# Altium footprint library Connector_PinHeader_2.54mm.PcbLib: 278 footprints (part 4 of 18)
Each footprint in its own frame and in the unit in brackets; x right, y up, seen from the top. Pads: shape width x height; smd on the part's side, far side on the other; paste and mask are expansions set on the pad; w line width, h text height; cw(c..) or ccw(c..) is an arc to the next point about the centre after c.
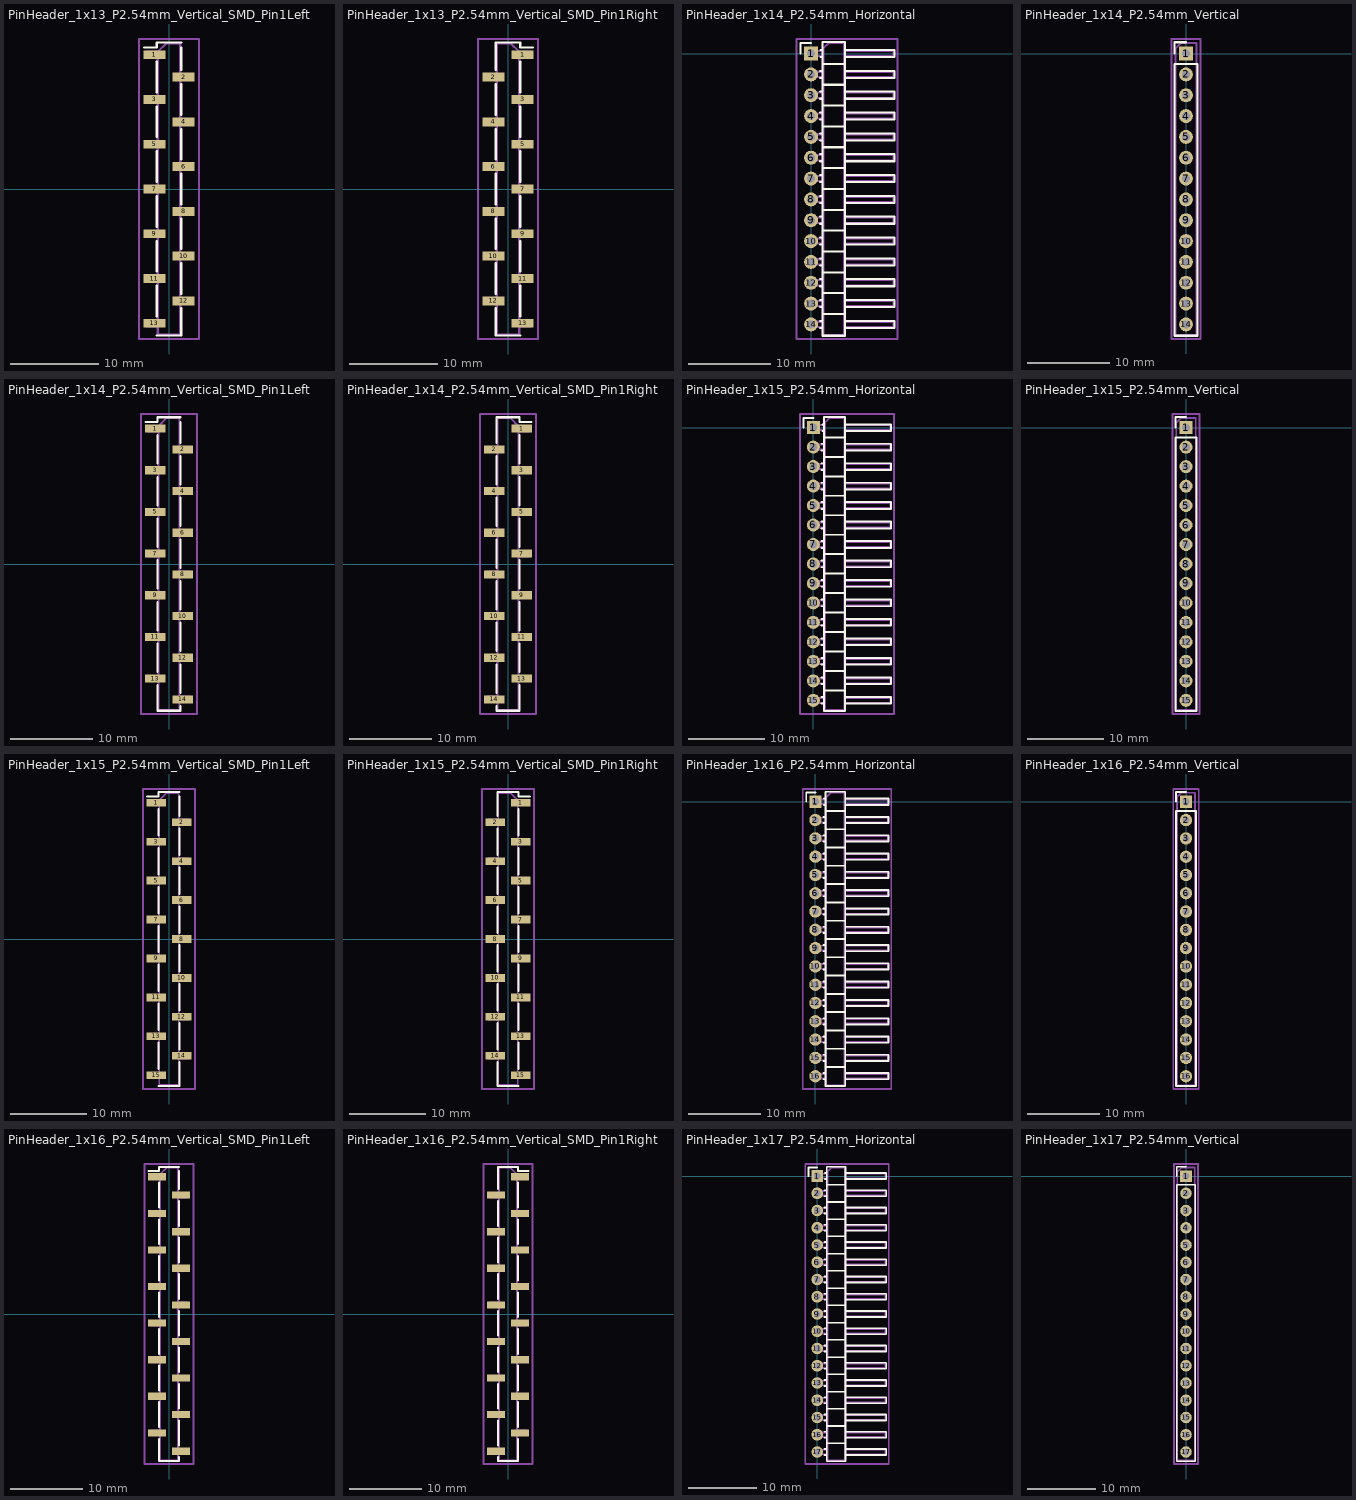
[diagram p3: the footprints below, top view; thin cyan lines are the x and y axes]

## PinHeader_1x13_P2.54mm_Vertical_SMD_Pin1Left [mm]
pads (13):
  rect 2.51x1 smd: 1(-1.655,15.24) 2(1.655,12.7) 3(-1.655,10.16) 4(1.655,7.62) 5(-1.655,5.08) 6(1.655,2.54) 7(-1.655,0) 8(1.655,-2.54) 9(-1.655,-5.08) 10(1.655,-7.62) 11(-1.655,-10.16) 12(1.655,-12.7) 13(-1.655,-15.24)
F.SilkS:
  lines w0.254: -2.85,16.05 -1.38,16.05 -1.38,16.62 1.38,16.62 ; -1.38,-16.62 1.38,-16.62 ; -1.38,-14.43 -1.38,-10.97 ; -1.38,-9.35 -1.38,-5.89 ; -1.38,-4.27 -1.38,-0.81 ; -1.38,0.81 -1.38,4.27 ; -1.38,5.89 -1.38,9.35 ; -1.38,10.97 -1.38,14.43 ; 1.38,-16.05 1.38,-16.62 ; 1.38,-13.51 1.38,-16.62 ; 1.38,-11.89 1.38,-8.43 ; 1.38,-6.81 1.38,-3.35 ; 1.38,-1.73 1.38,1.73 ; 1.38,3.35 1.38,6.81 ; 1.38,8.43 1.38,11.89 ; 1.38,13.51 1.38,16.05
Top Assembly:
  lines w0.254: -1.27,-15.56 -2.54,-15.56 -2.54,-14.92 -1.27,-14.92 ; -1.27,-10.48 -2.54,-10.48 -2.54,-9.84 -1.27,-9.84 ; -1.27,-5.4 -2.54,-5.4 -2.54,-4.76 -1.27,-4.76 ; -1.27,-0.32 -2.54,-0.32 -2.54,0.32 -1.27,0.32 ; -1.27,4.76 -2.54,4.76 -2.54,5.4 -1.27,5.4 ; -1.27,9.84 -2.54,9.84 -2.54,10.48 -1.27,10.48 ; -1.27,14.92 -2.54,14.92 -2.54,15.56 -1.27,15.56 ; 1.27,-13.02 2.54,-13.02 2.54,-12.38 1.27,-12.38 ; 1.27,-7.94 2.54,-7.94 2.54,-7.3 1.27,-7.3 ; 1.27,-2.86 2.54,-2.86 2.54,-2.22 1.27,-2.22 ; 1.27,2.22 2.54,2.22 2.54,2.86 1.27,2.86 ; 1.27,7.3 2.54,7.3 2.54,7.94 1.27,7.94 ; 1.27,12.38 2.54,12.38 2.54,13.02 1.27,13.02 ; -1.27,15.56 -1.27,-16.51 1.27,-16.51 1.27,16.51 -0.32,16.51 -1.27,15.56
  text "'.Designator'" at 0.84,-4.047 h1
Top Courtyard:
  lines w0.254: -3.41,-17.02 3.41,-17.02 3.41,17.02 -3.41,17.02 -3.41,-17.02
Top Designator:
  text ".Designator" at -7.618,-0.508 h1.52

## PinHeader_1x13_P2.54mm_Vertical_SMD_Pin1Right [mm]
pads (13):
  rect 2.51x1 smd: 1(1.655,15.24) 2(-1.655,12.7) 3(1.655,10.16) 4(-1.655,7.62) 5(1.655,5.08) 6(-1.655,2.54) 7(1.655,0) 8(-1.655,-2.54) 9(1.655,-5.08) 10(-1.655,-7.62) 11(1.655,-10.16) 12(-1.655,-12.7) 13(1.655,-15.24)
F.SilkS:
  lines w0.254: -1.38,-16.05 -1.38,-16.62 ; -1.38,-13.51 -1.38,-16.62 ; -1.38,-11.89 -1.38,-8.43 ; -1.38,-6.81 -1.38,-3.35 ; -1.38,-1.73 -1.38,1.73 ; -1.38,3.35 -1.38,6.81 ; -1.38,8.43 -1.38,11.89 ; -1.38,16.05 -1.38,13.51 -1.38,16.62 1.38,16.62 1.38,16.05 2.85,16.05 ; 1.38,-16.62 -1.38,-16.62 ; 1.38,-14.43 1.38,-10.97 ; 1.38,-9.35 1.38,-5.89 ; 1.38,-4.27 1.38,-0.81 ; 1.38,0.81 1.38,4.27 ; 1.38,5.89 1.38,9.35 ; 1.38,10.97 1.38,14.43
Top Assembly:
  lines w0.254: -1.27,-13.02 -2.54,-13.02 -2.54,-12.38 -1.27,-12.38 ; -1.27,-7.94 -2.54,-7.94 -2.54,-7.3 -1.27,-7.3 ; -1.27,-2.86 -2.54,-2.86 -2.54,-2.22 -1.27,-2.22 ; -1.27,2.22 -2.54,2.22 -2.54,2.86 -1.27,2.86 ; -1.27,7.3 -2.54,7.3 -2.54,7.94 -1.27,7.94 ; -1.27,12.38 -2.54,12.38 -2.54,13.02 -1.27,13.02 ; 1.27,-15.56 2.54,-15.56 2.54,-14.92 1.27,-14.92 ; 1.27,-10.48 2.54,-10.48 2.54,-9.84 1.27,-9.84 ; 1.27,-5.4 2.54,-5.4 2.54,-4.76 1.27,-4.76 ; 1.27,-0.32 2.54,-0.32 2.54,0.32 1.27,0.32 ; 1.27,4.76 2.54,4.76 2.54,5.4 1.27,5.4 ; 1.27,9.84 2.54,9.84 2.54,10.48 1.27,10.48 ; 1.27,14.92 2.54,14.92 2.54,15.56 1.27,15.56 ; 1.27,15.56 1.27,-16.51 -1.27,-16.51 -1.27,16.51 0.32,16.51 1.27,15.56
  text "'.Designator'" at 0.84,-4.047 h1
Top Courtyard:
  lines w0.254: -3.41,-17.02 3.41,-17.02 3.41,17.02 -3.41,17.02 -3.41,-17.02
Top Designator:
  text ".Designator" at -7.618,-0.508 h1.52

## PinHeader_1x14_P2.54mm_Horizontal [mm]
pads (14):
  rect 1.7x1.7 hole 1: 1(0,0)
  round 1.7 hole 1: 2(0,-2.54) 3(0,-5.08) 4(0,-7.62) 5(0,-10.16) 6(0,-12.7) 7(0,-15.24) 8(0,-17.78) 9(0,-20.32) 10(0,-22.86) 11(0,-25.4) 12(0,-27.94) 13(0,-30.48) 14(0,-33.02)
F.SilkS:
  lines w0.254: -1.27,0 -1.27,1.27 0,1.27 ; 1.077,-33.45 1.39,-33.45 ; 1.077,-32.59 1.39,-32.59 ; 1.077,-30.91 1.39,-30.91 ; 1.077,-30.05 1.39,-30.05 ; 1.077,-28.37 1.39,-28.37 ; 1.077,-27.51 1.39,-27.51 ; 1.077,-25.83 1.39,-25.83 ; 1.077,-24.97 1.39,-24.97 ; 1.077,-23.29 1.39,-23.29 ; 1.077,-22.43 1.39,-22.43 ; 1.077,-20.75 1.39,-20.75 ; 1.077,-19.89 1.39,-19.89 ; 1.077,-18.21 1.39,-18.21 ; 1.077,-17.35 1.39,-17.35 ; 1.077,-15.67 1.39,-15.67 ; 1.077,-14.81 1.39,-14.81 ; 1.077,-13.13 1.39,-13.13 ; 1.077,-12.27 1.39,-12.27 ; 1.077,-10.59 1.39,-10.59 ; 1.077,-9.73 1.39,-9.73 ; 1.077,-8.05 1.39,-8.05 ; 1.077,-7.19 1.39,-7.19 ; 1.077,-5.51 1.39,-5.51 ; 1.077,-4.65 1.39,-4.65 ; 1.077,-2.97 1.39,-2.97 ; 1.077,-2.11 1.39,-2.11 ; 1.16,-0.43 1.39,-0.43 ; 1.16,0.43 1.39,0.43 ; 1.39,-31.75 4.15,-31.75 ; 1.39,-29.21 4.15,-29.21 ; 1.39,-26.67 4.15,-26.67 ; 1.39,-24.13 4.15,-24.13 ; 1.39,-21.59 4.15,-21.59 ; 1.39,-19.05 4.15,-19.05 ; 1.39,-16.51 4.15,-16.51 ; 1.39,-13.97 4.15,-13.97 ; 1.39,-11.43 4.15,-11.43 ; 1.39,-8.89 4.15,-8.89 ; 1.39,-6.35 4.15,-6.35 ; 1.39,-3.81 4.15,-3.81 ; 1.39,-1.27 4.15,-1.27 ; 4.15,-33.45 10.15,-33.45 10.15,-32.59 4.15,-32.59 ; 4.15,-30.91 10.15,-30.91 10.15,-30.05 4.15,-30.05 ; 4.15,-28.37 10.15,-28.37 10.15,-27.51 4.15,-27.51 ; 4.15,-25.83 10.15,-25.83 10.15,-24.97 4.15,-24.97 ; 4.15,-23.29 10.15,-23.29 10.15,-22.43 4.15,-22.43 ; 4.15,-20.75 10.15,-20.75 10.15,-19.89 4.15,-19.89 ; 4.15,-18.21 10.15,-18.21 10.15,-17.35 4.15,-17.35 ; 4.15,-15.67 10.15,-15.67 10.15,-14.81 4.15,-14.81 ; 4.15,-13.13 10.15,-13.13 10.15,-12.27 4.15,-12.27 ; 4.15,-10.59 10.15,-10.59 10.15,-9.73 4.15,-9.73 ; 4.15,-8.05 10.15,-8.05 10.15,-7.19 4.15,-7.19 ; 4.15,-5.51 10.15,-5.51 10.15,-4.65 4.15,-4.65 ; 4.15,-2.97 10.15,-2.97 10.15,-2.11 4.15,-2.11 ; 1.39,-34.4 4.15,-34.4 4.15,1.38 1.39,1.38 1.39,-34.4 ; 4.15,-0.43 10.15,-0.43 10.15,0.43 4.15,0.43 4.15,-0.43
Top Assembly:
  lines w0.254: 1.5,-33.34 -0.32,-33.34 -0.32,-32.7 1.5,-32.7 ; 1.5,-30.8 -0.32,-30.8 -0.32,-30.16 1.5,-30.16 ; 1.5,-28.26 -0.32,-28.26 -0.32,-27.62 1.5,-27.62 ; 1.5,-25.72 -0.32,-25.72 -0.32,-25.08 1.5,-25.08 ; 1.5,-23.18 -0.32,-23.18 -0.32,-22.54 1.5,-22.54 ; 1.5,-20.64 -0.32,-20.64 -0.32,-20 1.5,-20 ; 1.5,-18.1 -0.32,-18.1 -0.32,-17.46 1.5,-17.46 ; 1.5,-15.56 -0.32,-15.56 -0.32,-14.92 1.5,-14.92 ; 1.5,-13.02 -0.32,-13.02 -0.32,-12.38 1.5,-12.38 ; 1.5,-10.48 -0.32,-10.48 -0.32,-9.84 1.5,-9.84 ; 1.5,-7.94 -0.32,-7.94 -0.32,-7.3 1.5,-7.3 ; 1.5,-5.4 -0.32,-5.4 -0.32,-4.76 1.5,-4.76 ; 1.5,-2.86 -0.32,-2.86 -0.32,-2.22 1.5,-2.22 ; 1.5,-0.32 -0.32,-0.32 -0.32,0.32 1.5,0.32 ; 4.04,-33.34 10.04,-33.34 10.04,-32.7 4.04,-32.7 ; 4.04,-30.8 10.04,-30.8 10.04,-30.16 4.04,-30.16 ; 4.04,-28.26 10.04,-28.26 10.04,-27.62 4.04,-27.62 ; 4.04,-25.72 10.04,-25.72 10.04,-25.08 4.04,-25.08 ; 4.04,-23.18 10.04,-23.18 10.04,-22.54 4.04,-22.54 ; 4.04,-20.64 10.04,-20.64 10.04,-20 4.04,-20 ; 4.04,-18.1 10.04,-18.1 10.04,-17.46 4.04,-17.46 ; 4.04,-15.56 10.04,-15.56 10.04,-14.92 4.04,-14.92 ; 4.04,-13.02 10.04,-13.02 10.04,-12.38 4.04,-12.38 ; 4.04,-10.48 10.04,-10.48 10.04,-9.84 4.04,-9.84 ; 4.04,-7.94 10.04,-7.94 10.04,-7.3 4.04,-7.3 ; 4.04,-5.4 10.04,-5.4 10.04,-4.76 4.04,-4.76 ; 4.04,-2.86 10.04,-2.86 10.04,-2.22 4.04,-2.22 ; 4.04,-0.32 10.04,-0.32 10.04,0.32 4.04,0.32 ; 1.5,-34.29 4.04,-34.29 4.04,1.27 2.135,1.27 1.5,0.635 1.5,-34.29
  text "'.Designator'" at 3.61,-20.557 h1
Top Courtyard:
  lines w0.254: -1.77,-34.8 10.54,-34.8 10.54,1.77 -1.77,1.77 -1.77,-34.8
Top Designator:
  text ".Designator" at -3.233,-17.023 h1.52

## PinHeader_1x14_P2.54mm_Vertical [mm]
pads (14):
  rect 1.7x1.7 hole 1: 1(0,0)
  round 1.7 hole 1: 2(0,-2.54) 3(0,-5.08) 4(0,-7.62) 5(0,-10.16) 6(0,-12.7) 7(0,-15.24) 8(0,-17.78) 9(0,-20.32) 10(0,-22.86) 11(0,-25.4) 12(0,-27.94) 13(0,-30.48) 14(0,-33.02)
F.SilkS:
  lines w0.254: -1.38,0 -1.38,1.38 0,1.38 ; -1.38,-34.4 1.38,-34.4 1.38,-1.27 -1.38,-1.27 -1.38,-34.4
Top Assembly:
  lines w0.254: -1.27,-34.29 1.27,-34.29 1.27,1.27 -0.635,1.27 -1.27,0.635 -1.27,-34.29
  text "'.Designator'" at 0.84,-20.557 h1
Top Courtyard:
  lines w0.254: -1.77,-34.8 1.77,-34.8 1.77,1.78 -1.77,1.78 -1.77,-34.8
Top Designator:
  text ".Designator" at -7.618,-17.018 h1.52

## PinHeader_1x14_P2.54mm_Vertical_SMD_Pin1Left [mm]
pads (14):
  rect 2.51x1 smd: 1(-1.655,16.51) 2(1.655,13.97) 3(-1.655,11.43) 4(1.655,8.89) 5(-1.655,6.35) 6(1.655,3.81) 7(-1.655,1.27) 8(1.655,-1.27) 9(-1.655,-3.81) 10(1.655,-6.35) 11(-1.655,-8.89) 12(1.655,-11.43) 13(-1.655,-13.97) 14(1.655,-16.51)
F.SilkS:
  lines w0.254: -2.85,17.32 -1.38,17.32 -1.38,17.89 1.38,17.89 ; -1.38,-14.78 -1.38,-17.89 1.38,-17.89 1.38,-17.32 ; -1.38,-13.16 -1.38,-9.7 ; -1.38,-8.08 -1.38,-4.62 ; -1.38,-3 -1.38,0.46 ; -1.38,2.08 -1.38,5.54 ; -1.38,7.16 -1.38,10.62 ; -1.38,12.24 -1.38,15.7 ; 1.38,-15.7 1.38,-12.24 ; 1.38,-10.62 1.38,-7.16 ; 1.38,-5.54 1.38,-2.08 ; 1.38,-0.46 1.38,3 ; 1.38,4.62 1.38,8.08 ; 1.38,9.7 1.38,13.16 ; 1.38,14.78 1.38,17.32
Top Assembly:
  lines w0.254: -1.27,-14.29 -2.54,-14.29 -2.54,-13.65 -1.27,-13.65 ; -1.27,-9.21 -2.54,-9.21 -2.54,-8.57 -1.27,-8.57 ; -1.27,-4.13 -2.54,-4.13 -2.54,-3.49 -1.27,-3.49 ; -1.27,0.95 -2.54,0.95 -2.54,1.59 -1.27,1.59 ; -1.27,6.03 -2.54,6.03 -2.54,6.67 -1.27,6.67 ; -1.27,11.11 -2.54,11.11 -2.54,11.75 -1.27,11.75 ; -1.27,16.19 -2.54,16.19 -2.54,16.83 -1.27,16.83 ; 1.27,-16.83 2.54,-16.83 2.54,-16.19 1.27,-16.19 ; 1.27,-11.75 2.54,-11.75 2.54,-11.11 1.27,-11.11 ; 1.27,-6.67 2.54,-6.67 2.54,-6.03 1.27,-6.03 ; 1.27,-1.59 2.54,-1.59 2.54,-0.95 1.27,-0.95 ; 1.27,3.49 2.54,3.49 2.54,4.13 1.27,4.13 ; 1.27,8.57 2.54,8.57 2.54,9.21 1.27,9.21 ; 1.27,13.65 2.54,13.65 2.54,14.29 1.27,14.29 ; -1.27,16.83 -1.27,-17.78 1.27,-17.78 1.27,17.78 -0.32,17.78 -1.27,16.83
  text "'.Designator'" at 0.84,-4.047 h1
Top Courtyard:
  lines w0.254: -3.41,-18.29 3.41,-18.29 3.41,18.29 -3.41,18.29 -3.41,-18.29
Top Designator:
  text ".Designator" at -7.618,-0.508 h1.52

## PinHeader_1x14_P2.54mm_Vertical_SMD_Pin1Right [mm]
pads (14):
  rect 2.51x1 smd: 1(1.655,16.51) 2(-1.655,13.97) 3(1.655,11.43) 4(-1.655,8.89) 5(1.655,6.35) 6(-1.655,3.81) 7(1.655,1.27) 8(-1.655,-1.27) 9(1.655,-3.81) 10(-1.655,-6.35) 11(1.655,-8.89) 12(-1.655,-11.43) 13(1.655,-13.97) 14(-1.655,-16.51)
F.SilkS:
  lines w0.254: -1.38,-17.32 -1.38,-17.89 1.38,-17.89 1.38,-14.78 ; -1.38,-15.7 -1.38,-12.24 ; -1.38,-10.62 -1.38,-7.16 ; -1.38,-5.54 -1.38,-2.08 ; -1.38,-0.46 -1.38,3 ; -1.38,4.62 -1.38,8.08 ; -1.38,9.7 -1.38,13.16 ; -1.38,17.32 -1.38,14.78 -1.38,17.89 1.38,17.89 1.38,17.32 2.85,17.32 ; 1.38,-13.16 1.38,-9.7 ; 1.38,-8.08 1.38,-4.62 ; 1.38,-3 1.38,0.46 ; 1.38,2.08 1.38,5.54 ; 1.38,7.16 1.38,10.62 ; 1.38,12.24 1.38,15.7
Top Assembly:
  lines w0.254: -1.27,-16.83 -2.54,-16.83 -2.54,-16.19 -1.27,-16.19 ; -1.27,-11.75 -2.54,-11.75 -2.54,-11.11 -1.27,-11.11 ; -1.27,-6.67 -2.54,-6.67 -2.54,-6.03 -1.27,-6.03 ; -1.27,-1.59 -2.54,-1.59 -2.54,-0.95 -1.27,-0.95 ; -1.27,3.49 -2.54,3.49 -2.54,4.13 -1.27,4.13 ; -1.27,8.57 -2.54,8.57 -2.54,9.21 -1.27,9.21 ; -1.27,13.65 -2.54,13.65 -2.54,14.29 -1.27,14.29 ; 1.27,-14.29 2.54,-14.29 2.54,-13.65 1.27,-13.65 ; 1.27,-9.21 2.54,-9.21 2.54,-8.57 1.27,-8.57 ; 1.27,-4.13 2.54,-4.13 2.54,-3.49 1.27,-3.49 ; 1.27,0.95 2.54,0.95 2.54,1.59 1.27,1.59 ; 1.27,6.03 2.54,6.03 2.54,6.67 1.27,6.67 ; 1.27,11.11 2.54,11.11 2.54,11.75 1.27,11.75 ; 1.27,16.19 2.54,16.19 2.54,16.83 1.27,16.83 ; 1.27,16.83 1.27,-17.78 -1.27,-17.78 -1.27,17.78 0.32,17.78 1.27,16.83
  text "'.Designator'" at 0.84,-4.047 h1
Top Courtyard:
  lines w0.254: -3.41,-18.29 3.41,-18.29 3.41,18.29 -3.41,18.29 -3.41,-18.29
Top Designator:
  text ".Designator" at -7.618,-0.508 h1.52

## PinHeader_1x15_P2.54mm_Horizontal [mm]
pads (15):
  rect 1.7x1.7 hole 1: 1(0,0)
  round 1.7 hole 1: 2(0,-2.54) 3(0,-5.08) 4(0,-7.62) 5(0,-10.16) 6(0,-12.7) 7(0,-15.24) 8(0,-17.78) 9(0,-20.32) 10(0,-22.86) 11(0,-25.4) 12(0,-27.94) 13(0,-30.48) 14(0,-33.02) 15(0,-35.56)
F.SilkS:
  lines w0.254: -1.27,0 -1.27,1.27 0,1.27 ; 1.077,-35.99 1.39,-35.99 ; 1.077,-35.13 1.39,-35.13 ; 1.077,-33.45 1.39,-33.45 ; 1.077,-32.59 1.39,-32.59 ; 1.077,-30.91 1.39,-30.91 ; 1.077,-30.05 1.39,-30.05 ; 1.077,-28.37 1.39,-28.37 ; 1.077,-27.51 1.39,-27.51 ; 1.077,-25.83 1.39,-25.83 ; 1.077,-24.97 1.39,-24.97 ; 1.077,-23.29 1.39,-23.29 ; 1.077,-22.43 1.39,-22.43 ; 1.077,-20.75 1.39,-20.75 ; 1.077,-19.89 1.39,-19.89 ; 1.077,-18.21 1.39,-18.21 ; 1.077,-17.35 1.39,-17.35 ; 1.077,-15.67 1.39,-15.67 ; 1.077,-14.81 1.39,-14.81 ; 1.077,-13.13 1.39,-13.13 ; 1.077,-12.27 1.39,-12.27 ; 1.077,-10.59 1.39,-10.59 ; 1.077,-9.73 1.39,-9.73 ; 1.077,-8.05 1.39,-8.05 ; 1.077,-7.19 1.39,-7.19 ; 1.077,-5.51 1.39,-5.51 ; 1.077,-4.65 1.39,-4.65 ; 1.077,-2.97 1.39,-2.97 ; 1.077,-2.11 1.39,-2.11 ; 1.16,-0.43 1.39,-0.43 ; 1.16,0.43 1.39,0.43 ; 1.39,-34.29 4.15,-34.29 ; 1.39,-31.75 4.15,-31.75 ; 1.39,-29.21 4.15,-29.21 ; 1.39,-26.67 4.15,-26.67 ; 1.39,-24.13 4.15,-24.13 ; 1.39,-21.59 4.15,-21.59 ; 1.39,-19.05 4.15,-19.05 ; 1.39,-16.51 4.15,-16.51 ; 1.39,-13.97 4.15,-13.97 ; 1.39,-11.43 4.15,-11.43 ; 1.39,-8.89 4.15,-8.89 ; 1.39,-6.35 4.15,-6.35 ; 1.39,-3.81 4.15,-3.81 ; 1.39,-1.27 4.15,-1.27 ; 4.15,-35.99 10.15,-35.99 10.15,-35.13 4.15,-35.13 ; 4.15,-33.45 10.15,-33.45 10.15,-32.59 4.15,-32.59 ; 4.15,-30.91 10.15,-30.91 10.15,-30.05 4.15,-30.05 ; 4.15,-28.37 10.15,-28.37 10.15,-27.51 4.15,-27.51 ; 4.15,-25.83 10.15,-25.83 10.15,-24.97 4.15,-24.97 ; 4.15,-23.29 10.15,-23.29 10.15,-22.43 4.15,-22.43 ; 4.15,-20.75 10.15,-20.75 10.15,-19.89 4.15,-19.89 ; 4.15,-18.21 10.15,-18.21 10.15,-17.35 4.15,-17.35 ; 4.15,-15.67 10.15,-15.67 10.15,-14.81 4.15,-14.81 ; 4.15,-13.13 10.15,-13.13 10.15,-12.27 4.15,-12.27 ; 4.15,-10.59 10.15,-10.59 10.15,-9.73 4.15,-9.73 ; 4.15,-8.05 10.15,-8.05 10.15,-7.19 4.15,-7.19 ; 4.15,-5.51 10.15,-5.51 10.15,-4.65 4.15,-4.65 ; 4.15,-2.97 10.15,-2.97 10.15,-2.11 4.15,-2.11 ; 1.39,-36.94 4.15,-36.94 4.15,1.38 1.39,1.38 1.39,-36.94 ; 4.15,-0.43 10.15,-0.43 10.15,0.43 4.15,0.43 4.15,-0.43
Top Assembly:
  lines w0.254: 1.5,-35.88 -0.32,-35.88 -0.32,-35.24 1.5,-35.24 ; 1.5,-33.34 -0.32,-33.34 -0.32,-32.7 1.5,-32.7 ; 1.5,-30.8 -0.32,-30.8 -0.32,-30.16 1.5,-30.16 ; 1.5,-28.26 -0.32,-28.26 -0.32,-27.62 1.5,-27.62 ; 1.5,-25.72 -0.32,-25.72 -0.32,-25.08 1.5,-25.08 ; 1.5,-23.18 -0.32,-23.18 -0.32,-22.54 1.5,-22.54 ; 1.5,-20.64 -0.32,-20.64 -0.32,-20 1.5,-20 ; 1.5,-18.1 -0.32,-18.1 -0.32,-17.46 1.5,-17.46 ; 1.5,-15.56 -0.32,-15.56 -0.32,-14.92 1.5,-14.92 ; 1.5,-13.02 -0.32,-13.02 -0.32,-12.38 1.5,-12.38 ; 1.5,-10.48 -0.32,-10.48 -0.32,-9.84 1.5,-9.84 ; 1.5,-7.94 -0.32,-7.94 -0.32,-7.3 1.5,-7.3 ; 1.5,-5.4 -0.32,-5.4 -0.32,-4.76 1.5,-4.76 ; 1.5,-2.86 -0.32,-2.86 -0.32,-2.22 1.5,-2.22 ; 1.5,-0.32 -0.32,-0.32 -0.32,0.32 1.5,0.32 ; 4.04,-35.88 10.04,-35.88 10.04,-35.24 4.04,-35.24 ; 4.04,-33.34 10.04,-33.34 10.04,-32.7 4.04,-32.7 ; 4.04,-30.8 10.04,-30.8 10.04,-30.16 4.04,-30.16 ; 4.04,-28.26 10.04,-28.26 10.04,-27.62 4.04,-27.62 ; 4.04,-25.72 10.04,-25.72 10.04,-25.08 4.04,-25.08 ; 4.04,-23.18 10.04,-23.18 10.04,-22.54 4.04,-22.54 ; 4.04,-20.64 10.04,-20.64 10.04,-20 4.04,-20 ; 4.04,-18.1 10.04,-18.1 10.04,-17.46 4.04,-17.46 ; 4.04,-15.56 10.04,-15.56 10.04,-14.92 4.04,-14.92 ; 4.04,-13.02 10.04,-13.02 10.04,-12.38 4.04,-12.38 ; 4.04,-10.48 10.04,-10.48 10.04,-9.84 4.04,-9.84 ; 4.04,-7.94 10.04,-7.94 10.04,-7.3 4.04,-7.3 ; 4.04,-5.4 10.04,-5.4 10.04,-4.76 4.04,-4.76 ; 4.04,-2.86 10.04,-2.86 10.04,-2.22 4.04,-2.22 ; 4.04,-0.32 10.04,-0.32 10.04,0.32 4.04,0.32 ; 1.5,-36.83 4.04,-36.83 4.04,1.27 2.135,1.27 1.5,0.635 1.5,-36.83
  text "'.Designator'" at 3.61,-21.827 h1
Top Courtyard:
  lines w0.254: -1.77,-37.34 10.54,-37.34 10.54,1.77 -1.77,1.77 -1.77,-37.34
Top Designator:
  text ".Designator" at -3.233,-18.293 h1.52

## PinHeader_1x15_P2.54mm_Vertical [mm]
pads (15):
  rect 1.7x1.7 hole 1: 1(0,0)
  round 1.7 hole 1: 2(0,-2.54) 3(0,-5.08) 4(0,-7.62) 5(0,-10.16) 6(0,-12.7) 7(0,-15.24) 8(0,-17.78) 9(0,-20.32) 10(0,-22.86) 11(0,-25.4) 12(0,-27.94) 13(0,-30.48) 14(0,-33.02) 15(0,-35.56)
F.SilkS:
  lines w0.254: -1.38,0 -1.38,1.38 0,1.38 ; -1.38,-36.94 1.38,-36.94 1.38,-1.27 -1.38,-1.27 -1.38,-36.94
Top Assembly:
  lines w0.254: -1.27,-36.83 1.27,-36.83 1.27,1.27 -0.635,1.27 -1.27,0.635 -1.27,-36.83
  text "'.Designator'" at 0.84,-21.827 h1
Top Courtyard:
  lines w0.254: -1.77,-37.34 1.77,-37.34 1.77,1.78 -1.77,1.78 -1.77,-37.34
Top Designator:
  text ".Designator" at -7.618,-18.288 h1.52

## PinHeader_1x15_P2.54mm_Vertical_SMD_Pin1Left [mm]
pads (15):
  rect 2.51x1 smd: 1(-1.655,17.78) 2(1.655,15.24) 3(-1.655,12.7) 4(1.655,10.16) 5(-1.655,7.62) 6(1.655,5.08) 7(-1.655,2.54) 8(1.655,0) 9(-1.655,-2.54) 10(1.655,-5.08) 11(-1.655,-7.62) 12(1.655,-10.16) 13(-1.655,-12.7) 14(1.655,-15.24) 15(-1.655,-17.78)
F.SilkS:
  lines w0.254: -2.85,18.59 -1.38,18.59 -1.38,19.16 1.38,19.16 ; -1.38,-19.16 1.38,-19.16 ; -1.38,-16.97 -1.38,-13.51 ; -1.38,-11.89 -1.38,-8.43 ; -1.38,-6.81 -1.38,-3.35 ; -1.38,-1.73 -1.38,1.73 ; -1.38,3.35 -1.38,6.81 ; -1.38,8.43 -1.38,11.89 ; -1.38,13.51 -1.38,16.97 ; 1.38,-18.59 1.38,-19.16 ; 1.38,-16.05 1.38,-19.16 ; 1.38,-14.43 1.38,-10.97 ; 1.38,-9.35 1.38,-5.89 ; 1.38,-4.27 1.38,-0.81 ; 1.38,0.81 1.38,4.27 ; 1.38,5.89 1.38,9.35 ; 1.38,10.97 1.38,14.43 ; 1.38,16.05 1.38,18.59
Top Assembly:
  lines w0.254: -1.27,-18.1 -2.54,-18.1 -2.54,-17.46 -1.27,-17.46 ; -1.27,-13.02 -2.54,-13.02 -2.54,-12.38 -1.27,-12.38 ; -1.27,-7.94 -2.54,-7.94 -2.54,-7.3 -1.27,-7.3 ; -1.27,-2.86 -2.54,-2.86 -2.54,-2.22 -1.27,-2.22 ; -1.27,2.22 -2.54,2.22 -2.54,2.86 -1.27,2.86 ; -1.27,7.3 -2.54,7.3 -2.54,7.94 -1.27,7.94 ; -1.27,12.38 -2.54,12.38 -2.54,13.02 -1.27,13.02 ; -1.27,17.46 -2.54,17.46 -2.54,18.1 -1.27,18.1 ; 1.27,-15.56 2.54,-15.56 2.54,-14.92 1.27,-14.92 ; 1.27,-10.48 2.54,-10.48 2.54,-9.84 1.27,-9.84 ; 1.27,-5.4 2.54,-5.4 2.54,-4.76 1.27,-4.76 ; 1.27,-0.32 2.54,-0.32 2.54,0.32 1.27,0.32 ; 1.27,4.76 2.54,4.76 2.54,5.4 1.27,5.4 ; 1.27,9.84 2.54,9.84 2.54,10.48 1.27,10.48 ; 1.27,14.92 2.54,14.92 2.54,15.56 1.27,15.56 ; -1.27,18.1 -1.27,-19.05 1.27,-19.05 1.27,19.05 -0.32,19.05 -1.27,18.1
  text "'.Designator'" at 0.84,-4.047 h1
Top Courtyard:
  lines w0.254: -3.41,-19.56 3.41,-19.56 3.41,19.56 -3.41,19.56 -3.41,-19.56
Top Designator:
  text ".Designator" at -7.618,-0.508 h1.52

## PinHeader_1x15_P2.54mm_Vertical_SMD_Pin1Right [mm]
pads (15):
  rect 2.51x1 smd: 1(1.655,17.78) 2(-1.655,15.24) 3(1.655,12.7) 4(-1.655,10.16) 5(1.655,7.62) 6(-1.655,5.08) 7(1.655,2.54) 8(-1.655,0) 9(1.655,-2.54) 10(-1.655,-5.08) 11(1.655,-7.62) 12(-1.655,-10.16) 13(1.655,-12.7) 14(-1.655,-15.24) 15(1.655,-17.78)
F.SilkS:
  lines w0.254: -1.38,-18.59 -1.38,-19.16 ; -1.38,-16.05 -1.38,-19.16 ; -1.38,-14.43 -1.38,-10.97 ; -1.38,-9.35 -1.38,-5.89 ; -1.38,-4.27 -1.38,-0.81 ; -1.38,0.81 -1.38,4.27 ; -1.38,5.89 -1.38,9.35 ; -1.38,10.97 -1.38,14.43 ; -1.38,18.59 -1.38,16.05 -1.38,19.16 1.38,19.16 1.38,18.59 2.85,18.59 ; 1.38,-19.16 -1.38,-19.16 ; 1.38,-16.97 1.38,-13.51 ; 1.38,-11.89 1.38,-8.43 ; 1.38,-6.81 1.38,-3.35 ; 1.38,-1.73 1.38,1.73 ; 1.38,3.35 1.38,6.81 ; 1.38,8.43 1.38,11.89 ; 1.38,13.51 1.38,16.97
Top Assembly:
  lines w0.254: -1.27,-15.56 -2.54,-15.56 -2.54,-14.92 -1.27,-14.92 ; -1.27,-10.48 -2.54,-10.48 -2.54,-9.84 -1.27,-9.84 ; -1.27,-5.4 -2.54,-5.4 -2.54,-4.76 -1.27,-4.76 ; -1.27,-0.32 -2.54,-0.32 -2.54,0.32 -1.27,0.32 ; -1.27,4.76 -2.54,4.76 -2.54,5.4 -1.27,5.4 ; -1.27,9.84 -2.54,9.84 -2.54,10.48 -1.27,10.48 ; -1.27,14.92 -2.54,14.92 -2.54,15.56 -1.27,15.56 ; 1.27,-18.1 2.54,-18.1 2.54,-17.46 1.27,-17.46 ; 1.27,-13.02 2.54,-13.02 2.54,-12.38 1.27,-12.38 ; 1.27,-7.94 2.54,-7.94 2.54,-7.3 1.27,-7.3 ; 1.27,-2.86 2.54,-2.86 2.54,-2.22 1.27,-2.22 ; 1.27,2.22 2.54,2.22 2.54,2.86 1.27,2.86 ; 1.27,7.3 2.54,7.3 2.54,7.94 1.27,7.94 ; 1.27,12.38 2.54,12.38 2.54,13.02 1.27,13.02 ; 1.27,17.46 2.54,17.46 2.54,18.1 1.27,18.1 ; 1.27,18.1 1.27,-19.05 -1.27,-19.05 -1.27,19.05 0.32,19.05 1.27,18.1
  text "'.Designator'" at 0.84,-4.047 h1
Top Courtyard:
  lines w0.254: -3.41,-19.56 3.41,-19.56 3.41,19.56 -3.41,19.56 -3.41,-19.56
Top Designator:
  text ".Designator" at -7.618,-0.508 h1.52

## PinHeader_1x16_P2.54mm_Horizontal [mm]
pads (16):
  rect 1.7x1.7 hole 1: 1(0,0)
  round 1.7 hole 1: 2(0,-2.54) 3(0,-5.08) 4(0,-7.62) 5(0,-10.16) 6(0,-12.7) 7(0,-15.24) 8(0,-17.78) 9(0,-20.32) 10(0,-22.86) 11(0,-25.4) 12(0,-27.94) 13(0,-30.48) 14(0,-33.02) 15(0,-35.56) 16(0,-38.1)
F.SilkS:
  lines w0.254: -1.27,0 -1.27,1.27 0,1.27 ; 1.077,-38.53 1.39,-38.53 ; 1.077,-37.67 1.39,-37.67 ; 1.077,-35.99 1.39,-35.99 ; 1.077,-35.13 1.39,-35.13 ; 1.077,-33.45 1.39,-33.45 ; 1.077,-32.59 1.39,-32.59 ; 1.077,-30.91 1.39,-30.91 ; 1.077,-30.05 1.39,-30.05 ; 1.077,-28.37 1.39,-28.37 ; 1.077,-27.51 1.39,-27.51 ; 1.077,-25.83 1.39,-25.83 ; 1.077,-24.97 1.39,-24.97 ; 1.077,-23.29 1.39,-23.29 ; 1.077,-22.43 1.39,-22.43 ; 1.077,-20.75 1.39,-20.75 ; 1.077,-19.89 1.39,-19.89 ; 1.077,-18.21 1.39,-18.21 ; 1.077,-17.35 1.39,-17.35 ; 1.077,-15.67 1.39,-15.67 ; 1.077,-14.81 1.39,-14.81 ; 1.077,-13.13 1.39,-13.13 ; 1.077,-12.27 1.39,-12.27 ; 1.077,-10.59 1.39,-10.59 ; 1.077,-9.73 1.39,-9.73 ; 1.077,-8.05 1.39,-8.05 ; 1.077,-7.19 1.39,-7.19 ; 1.077,-5.51 1.39,-5.51 ; 1.077,-4.65 1.39,-4.65 ; 1.077,-2.97 1.39,-2.97 ; 1.077,-2.11 1.39,-2.11 ; 1.16,-0.43 1.39,-0.43 ; 1.16,0.43 1.39,0.43 ; 1.39,-36.83 4.15,-36.83 ; 1.39,-34.29 4.15,-34.29 ; 1.39,-31.75 4.15,-31.75 ; 1.39,-29.21 4.15,-29.21 ; 1.39,-26.67 4.15,-26.67 ; 1.39,-24.13 4.15,-24.13 ; 1.39,-21.59 4.15,-21.59 ; 1.39,-19.05 4.15,-19.05 ; 1.39,-16.51 4.15,-16.51 ; 1.39,-13.97 4.15,-13.97 ; 1.39,-11.43 4.15,-11.43 ; 1.39,-8.89 4.15,-8.89 ; 1.39,-6.35 4.15,-6.35 ; 1.39,-3.81 4.15,-3.81 ; 1.39,-1.27 4.15,-1.27 ; 4.15,-38.53 10.15,-38.53 10.15,-37.67 4.15,-37.67 ; 4.15,-35.99 10.15,-35.99 10.15,-35.13 4.15,-35.13 ; 4.15,-33.45 10.15,-33.45 10.15,-32.59 4.15,-32.59 ; 4.15,-30.91 10.15,-30.91 10.15,-30.05 4.15,-30.05 ; 4.15,-28.37 10.15,-28.37 10.15,-27.51 4.15,-27.51 ; 4.15,-25.83 10.15,-25.83 10.15,-24.97 4.15,-24.97 ; 4.15,-23.29 10.15,-23.29 10.15,-22.43 4.15,-22.43 ; 4.15,-20.75 10.15,-20.75 10.15,-19.89 4.15,-19.89 ; 4.15,-18.21 10.15,-18.21 10.15,-17.35 4.15,-17.35 ; 4.15,-15.67 10.15,-15.67 10.15,-14.81 4.15,-14.81 ; 4.15,-13.13 10.15,-13.13 10.15,-12.27 4.15,-12.27 ; 4.15,-10.59 10.15,-10.59 10.15,-9.73 4.15,-9.73 ; 4.15,-8.05 10.15,-8.05 10.15,-7.19 4.15,-7.19 ; 4.15,-5.51 10.15,-5.51 10.15,-4.65 4.15,-4.65 ; 4.15,-2.97 10.15,-2.97 10.15,-2.11 4.15,-2.11 ; 1.39,-39.48 4.15,-39.48 4.15,1.38 1.39,1.38 1.39,-39.48 ; 4.15,-0.43 10.15,-0.43 10.15,0.43 4.15,0.43 4.15,-0.43
Top Assembly:
  lines w0.254: 1.5,-38.42 -0.32,-38.42 -0.32,-37.78 1.5,-37.78 ; 1.5,-35.88 -0.32,-35.88 -0.32,-35.24 1.5,-35.24 ; 1.5,-33.34 -0.32,-33.34 -0.32,-32.7 1.5,-32.7 ; 1.5,-30.8 -0.32,-30.8 -0.32,-30.16 1.5,-30.16 ; 1.5,-28.26 -0.32,-28.26 -0.32,-27.62 1.5,-27.62 ; 1.5,-25.72 -0.32,-25.72 -0.32,-25.08 1.5,-25.08 ; 1.5,-23.18 -0.32,-23.18 -0.32,-22.54 1.5,-22.54 ; 1.5,-20.64 -0.32,-20.64 -0.32,-20 1.5,-20 ; 1.5,-18.1 -0.32,-18.1 -0.32,-17.46 1.5,-17.46 ; 1.5,-15.56 -0.32,-15.56 -0.32,-14.92 1.5,-14.92 ; 1.5,-13.02 -0.32,-13.02 -0.32,-12.38 1.5,-12.38 ; 1.5,-10.48 -0.32,-10.48 -0.32,-9.84 1.5,-9.84 ; 1.5,-7.94 -0.32,-7.94 -0.32,-7.3 1.5,-7.3 ; 1.5,-5.4 -0.32,-5.4 -0.32,-4.76 1.5,-4.76 ; 1.5,-2.86 -0.32,-2.86 -0.32,-2.22 1.5,-2.22 ; 1.5,-0.32 -0.32,-0.32 -0.32,0.32 1.5,0.32 ; 4.04,-38.42 10.04,-38.42 10.04,-37.78 4.04,-37.78 ; 4.04,-35.88 10.04,-35.88 10.04,-35.24 4.04,-35.24 ; 4.04,-33.34 10.04,-33.34 10.04,-32.7 4.04,-32.7 ; 4.04,-30.8 10.04,-30.8 10.04,-30.16 4.04,-30.16 ; 4.04,-28.26 10.04,-28.26 10.04,-27.62 4.04,-27.62 ; 4.04,-25.72 10.04,-25.72 10.04,-25.08 4.04,-25.08 ; 4.04,-23.18 10.04,-23.18 10.04,-22.54 4.04,-22.54 ; 4.04,-20.64 10.04,-20.64 10.04,-20 4.04,-20 ; 4.04,-18.1 10.04,-18.1 10.04,-17.46 4.04,-17.46 ; 4.04,-15.56 10.04,-15.56 10.04,-14.92 4.04,-14.92 ; 4.04,-13.02 10.04,-13.02 10.04,-12.38 4.04,-12.38 ; 4.04,-10.48 10.04,-10.48 10.04,-9.84 4.04,-9.84 ; 4.04,-7.94 10.04,-7.94 10.04,-7.3 4.04,-7.3 ; 4.04,-5.4 10.04,-5.4 10.04,-4.76 4.04,-4.76 ; 4.04,-2.86 10.04,-2.86 10.04,-2.22 4.04,-2.22 ; 4.04,-0.32 10.04,-0.32 10.04,0.32 4.04,0.32 ; 1.5,-39.37 4.04,-39.37 4.04,1.27 2.135,1.27 1.5,0.635 1.5,-39.37
  text "'.Designator'" at 3.61,-23.097 h1
Top Courtyard:
  lines w0.254: -1.77,-39.88 10.54,-39.88 10.54,1.77 -1.77,1.77 -1.77,-39.88
Top Designator:
  text ".Designator" at -3.233,-19.563 h1.52

## PinHeader_1x16_P2.54mm_Vertical [mm]
pads (16):
  rect 1.7x1.7 hole 1: 1(0,0)
  round 1.7 hole 1: 2(0,-2.54) 3(0,-5.08) 4(0,-7.62) 5(0,-10.16) 6(0,-12.7) 7(0,-15.24) 8(0,-17.78) 9(0,-20.32) 10(0,-22.86) 11(0,-25.4) 12(0,-27.94) 13(0,-30.48) 14(0,-33.02) 15(0,-35.56) 16(0,-38.1)
F.SilkS:
  lines w0.254: -1.38,0 -1.38,1.38 0,1.38 ; -1.38,-39.48 1.38,-39.48 1.38,-1.27 -1.38,-1.27 -1.38,-39.48
Top Assembly:
  lines w0.254: -1.27,-39.37 1.27,-39.37 1.27,1.27 -0.635,1.27 -1.27,0.635 -1.27,-39.37
  text "'.Designator'" at 0.84,-23.097 h1
Top Courtyard:
  lines w0.254: -1.77,-39.88 1.77,-39.88 1.77,1.78 -1.77,1.78 -1.77,-39.88
Top Designator:
  text ".Designator" at -7.618,-19.558 h1.52

## PinHeader_1x16_P2.54mm_Vertical_SMD_Pin1Left [mm]
pads (16):
  rect 2.51x1 smd: 1(-1.655,19.05) 2(1.655,16.51) 3(-1.655,13.97) 4(1.655,11.43) 5(-1.655,8.89) 6(1.655,6.35) 7(-1.655,3.81) 8(1.655,1.27) 9(-1.655,-1.27) 10(1.655,-3.81) 11(-1.655,-6.35) 12(1.655,-8.89) 13(-1.655,-11.43) 14(1.655,-13.97) 15(-1.655,-16.51) 16(1.655,-19.05)
F.SilkS:
  lines w0.254: -2.85,19.86 -1.38,19.86 -1.38,20.43 1.38,20.43 ; -1.38,-17.32 -1.38,-20.43 1.38,-20.43 1.38,-19.86 ; -1.38,-15.7 -1.38,-12.24 ; -1.38,-10.62 -1.38,-7.16 ; -1.38,-5.54 -1.38,-2.08 ; -1.38,-0.46 -1.38,3 ; -1.38,4.62 -1.38,8.08 ; -1.38,9.7 -1.38,13.16 ; -1.38,14.78 -1.38,18.24 ; 1.38,-18.24 1.38,-14.78 ; 1.38,-13.16 1.38,-9.7 ; 1.38,-8.08 1.38,-4.62 ; 1.38,-3 1.38,0.46 ; 1.38,2.08 1.38,5.54 ; 1.38,7.16 1.38,10.62 ; 1.38,12.24 1.38,15.7 ; 1.38,17.32 1.38,19.86
Top Assembly:
  lines w0.254: -1.27,-16.83 -2.54,-16.83 -2.54,-16.19 -1.27,-16.19 ; -1.27,-11.75 -2.54,-11.75 -2.54,-11.11 -1.27,-11.11 ; -1.27,-6.67 -2.54,-6.67 -2.54,-6.03 -1.27,-6.03 ; -1.27,-1.59 -2.54,-1.59 -2.54,-0.95 -1.27,-0.95 ; -1.27,3.49 -2.54,3.49 -2.54,4.13 -1.27,4.13 ; -1.27,8.57 -2.54,8.57 -2.54,9.21 -1.27,9.21 ; -1.27,13.65 -2.54,13.65 -2.54,14.29 -1.27,14.29 ; -1.27,18.73 -2.54,18.73 -2.54,19.37 -1.27,19.37 ; 1.27,-19.37 2.54,-19.37 2.54,-18.73 1.27,-18.73 ; 1.27,-14.29 2.54,-14.29 2.54,-13.65 1.27,-13.65 ; 1.27,-9.21 2.54,-9.21 2.54,-8.57 1.27,-8.57 ; 1.27,-4.13 2.54,-4.13 2.54,-3.49 1.27,-3.49 ; 1.27,0.95 2.54,0.95 2.54,1.59 1.27,1.59 ; 1.27,6.03 2.54,6.03 2.54,6.67 1.27,6.67 ; 1.27,11.11 2.54,11.11 2.54,11.75 1.27,11.75 ; 1.27,16.19 2.54,16.19 2.54,16.83 1.27,16.83 ; -1.27,19.37 -1.27,-20.32 1.27,-20.32 1.27,20.32 -0.32,20.32 -1.27,19.37
  text "'.Designator'" at 0.84,-4.047 h1
Top Courtyard:
  lines w0.254: -3.41,-20.83 3.41,-20.83 3.41,20.83 -3.41,20.83 -3.41,-20.83
Top Designator:
  text ".Designator" at -7.618,-0.508 h1.52

## PinHeader_1x16_P2.54mm_Vertical_SMD_Pin1Right [mm]
pads (16):
  rect 2.51x1 smd: 1(1.655,19.05) 2(-1.655,16.51) 3(1.655,13.97) 4(-1.655,11.43) 5(1.655,8.89) 6(-1.655,6.35) 7(1.655,3.81) 8(-1.655,1.27) 9(1.655,-1.27) 10(-1.655,-3.81) 11(1.655,-6.35) 12(-1.655,-8.89) 13(1.655,-11.43) 14(-1.655,-13.97) 15(1.655,-16.51) 16(-1.655,-19.05)
F.SilkS:
  lines w0.254: -1.38,-19.86 -1.38,-20.43 1.38,-20.43 1.38,-17.32 ; -1.38,-18.24 -1.38,-14.78 ; -1.38,-13.16 -1.38,-9.7 ; -1.38,-8.08 -1.38,-4.62 ; -1.38,-3 -1.38,0.46 ; -1.38,2.08 -1.38,5.54 ; -1.38,7.16 -1.38,10.62 ; -1.38,12.24 -1.38,15.7 ; -1.38,19.86 -1.38,17.32 -1.38,20.43 1.38,20.43 1.38,19.86 2.85,19.86 ; 1.38,-15.7 1.38,-12.24 ; 1.38,-10.62 1.38,-7.16 ; 1.38,-5.54 1.38,-2.08 ; 1.38,-0.46 1.38,3 ; 1.38,4.62 1.38,8.08 ; 1.38,9.7 1.38,13.16 ; 1.38,14.78 1.38,18.24
Top Assembly:
  lines w0.254: -1.27,-19.37 -2.54,-19.37 -2.54,-18.73 -1.27,-18.73 ; -1.27,-14.29 -2.54,-14.29 -2.54,-13.65 -1.27,-13.65 ; -1.27,-9.21 -2.54,-9.21 -2.54,-8.57 -1.27,-8.57 ; -1.27,-4.13 -2.54,-4.13 -2.54,-3.49 -1.27,-3.49 ; -1.27,0.95 -2.54,0.95 -2.54,1.59 -1.27,1.59 ; -1.27,6.03 -2.54,6.03 -2.54,6.67 -1.27,6.67 ; -1.27,11.11 -2.54,11.11 -2.54,11.75 -1.27,11.75 ; -1.27,16.19 -2.54,16.19 -2.54,16.83 -1.27,16.83 ; 1.27,-16.83 2.54,-16.83 2.54,-16.19 1.27,-16.19 ; 1.27,-11.75 2.54,-11.75 2.54,-11.11 1.27,-11.11 ; 1.27,-6.67 2.54,-6.67 2.54,-6.03 1.27,-6.03 ; 1.27,-1.59 2.54,-1.59 2.54,-0.95 1.27,-0.95 ; 1.27,3.49 2.54,3.49 2.54,4.13 1.27,4.13 ; 1.27,8.57 2.54,8.57 2.54,9.21 1.27,9.21 ; 1.27,13.65 2.54,13.65 2.54,14.29 1.27,14.29 ; 1.27,18.73 2.54,18.73 2.54,19.37 1.27,19.37 ; 1.27,19.37 1.27,-20.32 -1.27,-20.32 -1.27,20.32 0.32,20.32 1.27,19.37
  text "'.Designator'" at 0.84,-4.047 h1
Top Courtyard:
  lines w0.254: -3.41,-20.83 3.41,-20.83 3.41,20.83 -3.41,20.83 -3.41,-20.83
Top Designator:
  text ".Designator" at -7.618,-0.508 h1.52

## PinHeader_1x17_P2.54mm_Horizontal [mm]
pads (17):
  rect 1.7x1.7 hole 1: 1(0,0)
  round 1.7 hole 1: 2(0,-2.54) 3(0,-5.08) 4(0,-7.62) 5(0,-10.16) 6(0,-12.7) 7(0,-15.24) 8(0,-17.78) 9(0,-20.32) 10(0,-22.86) 11(0,-25.4) 12(0,-27.94) 13(0,-30.48) 14(0,-33.02) 15(0,-35.56) 16(0,-38.1) 17(0,-40.64)
F.SilkS:
  lines w0.254: -1.27,0 -1.27,1.27 0,1.27 ; 1.077,-41.07 1.39,-41.07 ; 1.077,-40.21 1.39,-40.21 ; 1.077,-38.53 1.39,-38.53 ; 1.077,-37.67 1.39,-37.67 ; 1.077,-35.99 1.39,-35.99 ; 1.077,-35.13 1.39,-35.13 ; 1.077,-33.45 1.39,-33.45 ; 1.077,-32.59 1.39,-32.59 ; 1.077,-30.91 1.39,-30.91 ; 1.077,-30.05 1.39,-30.05 ; 1.077,-28.37 1.39,-28.37 ; 1.077,-27.51 1.39,-27.51 ; 1.077,-25.83 1.39,-25.83 ; 1.077,-24.97 1.39,-24.97 ; 1.077,-23.29 1.39,-23.29 ; 1.077,-22.43 1.39,-22.43 ; 1.077,-20.75 1.39,-20.75 ; 1.077,-19.89 1.39,-19.89 ; 1.077,-18.21 1.39,-18.21 ; 1.077,-17.35 1.39,-17.35 ; 1.077,-15.67 1.39,-15.67 ; 1.077,-14.81 1.39,-14.81 ; 1.077,-13.13 1.39,-13.13 ; 1.077,-12.27 1.39,-12.27 ; 1.077,-10.59 1.39,-10.59 ; 1.077,-9.73 1.39,-9.73 ; 1.077,-8.05 1.39,-8.05 ; 1.077,-7.19 1.39,-7.19 ; 1.077,-5.51 1.39,-5.51 ; 1.077,-4.65 1.39,-4.65 ; 1.077,-2.97 1.39,-2.97 ; 1.077,-2.11 1.39,-2.11 ; 1.16,-0.43 1.39,-0.43 ; 1.16,0.43 1.39,0.43 ; 1.39,-39.37 4.15,-39.37 ; 1.39,-36.83 4.15,-36.83 ; 1.39,-34.29 4.15,-34.29 ; 1.39,-31.75 4.15,-31.75 ; 1.39,-29.21 4.15,-29.21 ; 1.39,-26.67 4.15,-26.67 ; 1.39,-24.13 4.15,-24.13 ; 1.39,-21.59 4.15,-21.59 ; 1.39,-19.05 4.15,-19.05 ; 1.39,-16.51 4.15,-16.51 ; 1.39,-13.97 4.15,-13.97 ; 1.39,-11.43 4.15,-11.43 ; 1.39,-8.89 4.15,-8.89 ; 1.39,-6.35 4.15,-6.35 ; 1.39,-3.81 4.15,-3.81 ; 1.39,-1.27 4.15,-1.27 ; 4.15,-41.07 10.15,-41.07 10.15,-40.21 4.15,-40.21 ; 4.15,-38.53 10.15,-38.53 10.15,-37.67 4.15,-37.67 ; 4.15,-35.99 10.15,-35.99 10.15,-35.13 4.15,-35.13 ; 4.15,-33.45 10.15,-33.45 10.15,-32.59 4.15,-32.59 ; 4.15,-30.91 10.15,-30.91 10.15,-30.05 4.15,-30.05 ; 4.15,-28.37 10.15,-28.37 10.15,-27.51 4.15,-27.51 ; 4.15,-25.83 10.15,-25.83 10.15,-24.97 4.15,-24.97 ; 4.15,-23.29 10.15,-23.29 10.15,-22.43 4.15,-22.43 ; 4.15,-20.75 10.15,-20.75 10.15,-19.89 4.15,-19.89 ; 4.15,-18.21 10.15,-18.21 10.15,-17.35 4.15,-17.35 ; 4.15,-15.67 10.15,-15.67 10.15,-14.81 4.15,-14.81 ; 4.15,-13.13 10.15,-13.13 10.15,-12.27 4.15,-12.27 ; 4.15,-10.59 10.15,-10.59 10.15,-9.73 4.15,-9.73 ; 4.15,-8.05 10.15,-8.05 10.15,-7.19 4.15,-7.19 ; 4.15,-5.51 10.15,-5.51 10.15,-4.65 4.15,-4.65 ; 4.15,-2.97 10.15,-2.97 10.15,-2.11 4.15,-2.11 ; 1.39,-42.02 4.15,-42.02 4.15,1.38 1.39,1.38 1.39,-42.02 ; 4.15,-0.43 10.15,-0.43 10.15,0.43 4.15,0.43 4.15,-0.43
Top Assembly:
  lines w0.254: 1.5,-40.96 -0.32,-40.96 -0.32,-40.32 1.5,-40.32 ; 1.5,-38.42 -0.32,-38.42 -0.32,-37.78 1.5,-37.78 ; 1.5,-35.88 -0.32,-35.88 -0.32,-35.24 1.5,-35.24 ; 1.5,-33.34 -0.32,-33.34 -0.32,-32.7 1.5,-32.7 ; 1.5,-30.8 -0.32,-30.8 -0.32,-30.16 1.5,-30.16 ; 1.5,-28.26 -0.32,-28.26 -0.32,-27.62 1.5,-27.62 ; 1.5,-25.72 -0.32,-25.72 -0.32,-25.08 1.5,-25.08 ; 1.5,-23.18 -0.32,-23.18 -0.32,-22.54 1.5,-22.54 ; 1.5,-20.64 -0.32,-20.64 -0.32,-20 1.5,-20 ; 1.5,-18.1 -0.32,-18.1 -0.32,-17.46 1.5,-17.46 ; 1.5,-15.56 -0.32,-15.56 -0.32,-14.92 1.5,-14.92 ; 1.5,-13.02 -0.32,-13.02 -0.32,-12.38 1.5,-12.38 ; 1.5,-10.48 -0.32,-10.48 -0.32,-9.84 1.5,-9.84 ; 1.5,-7.94 -0.32,-7.94 -0.32,-7.3 1.5,-7.3 ; 1.5,-5.4 -0.32,-5.4 -0.32,-4.76 1.5,-4.76 ; 1.5,-2.86 -0.32,-2.86 -0.32,-2.22 1.5,-2.22 ; 1.5,-0.32 -0.32,-0.32 -0.32,0.32 1.5,0.32 ; 4.04,-40.96 10.04,-40.96 10.04,-40.32 4.04,-40.32 ; 4.04,-38.42 10.04,-38.42 10.04,-37.78 4.04,-37.78 ; 4.04,-35.88 10.04,-35.88 10.04,-35.24 4.04,-35.24 ; 4.04,-33.34 10.04,-33.34 10.04,-32.7 4.04,-32.7 ; 4.04,-30.8 10.04,-30.8 10.04,-30.16 4.04,-30.16 ; 4.04,-28.26 10.04,-28.26 10.04,-27.62 4.04,-27.62 ; 4.04,-25.72 10.04,-25.72 10.04,-25.08 4.04,-25.08 ; 4.04,-23.18 10.04,-23.18 10.04,-22.54 4.04,-22.54 ; 4.04,-20.64 10.04,-20.64 10.04,-20 4.04,-20 ; 4.04,-18.1 10.04,-18.1 10.04,-17.46 4.04,-17.46 ; 4.04,-15.56 10.04,-15.56 10.04,-14.92 4.04,-14.92 ; 4.04,-13.02 10.04,-13.02 10.04,-12.38 4.04,-12.38 ; 4.04,-10.48 10.04,-10.48 10.04,-9.84 4.04,-9.84 ; 4.04,-7.94 10.04,-7.94 10.04,-7.3 4.04,-7.3 ; 4.04,-5.4 10.04,-5.4 10.04,-4.76 4.04,-4.76 ; 4.04,-2.86 10.04,-2.86 10.04,-2.22 4.04,-2.22 ; 4.04,-0.32 10.04,-0.32 10.04,0.32 4.04,0.32 ; 1.5,-41.91 4.04,-41.91 4.04,1.27 2.135,1.27 1.5,0.635 1.5,-41.91
  text "'.Designator'" at 3.61,-24.367 h1
Top Courtyard:
  lines w0.254: -1.77,-42.41 10.54,-42.41 10.54,1.77 -1.77,1.77 -1.77,-42.41
Top Designator:
  text ".Designator" at -3.233,-20.828 h1.52

## PinHeader_1x17_P2.54mm_Vertical [mm]
pads (17):
  rect 1.7x1.7 hole 1: 1(0,0)
  round 1.7 hole 1: 2(0,-2.54) 3(0,-5.08) 4(0,-7.62) 5(0,-10.16) 6(0,-12.7) 7(0,-15.24) 8(0,-17.78) 9(0,-20.32) 10(0,-22.86) 11(0,-25.4) 12(0,-27.94) 13(0,-30.48) 14(0,-33.02) 15(0,-35.56) 16(0,-38.1) 17(0,-40.64)
F.SilkS:
  lines w0.254: -1.38,0 -1.38,1.38 0,1.38 ; -1.38,-42.02 1.38,-42.02 1.38,-1.27 -1.38,-1.27 -1.38,-42.02
Top Assembly:
  lines w0.254: -1.27,-41.91 1.27,-41.91 1.27,1.27 -0.635,1.27 -1.27,0.635 -1.27,-41.91
  text "'.Designator'" at 0.84,-24.367 h1
Top Courtyard:
  lines w0.254: -1.77,-42.41 1.77,-42.41 1.77,1.78 -1.77,1.78 -1.77,-42.41
Top Designator:
  text ".Designator" at -7.618,-20.823 h1.52